# Altium footprint library ESP32_S3_PcbLib.PcbLib: 16 footprints
Each footprint in its own frame and in the unit in brackets; x right, y up, seen from the top. Pads: shape width x height; smd on the part's side, far side on the other; paste and mask are expansions set on the pad; w line width, h text height; cw(c..) or ccw(c..) is an arc to the next point about the centre after c.
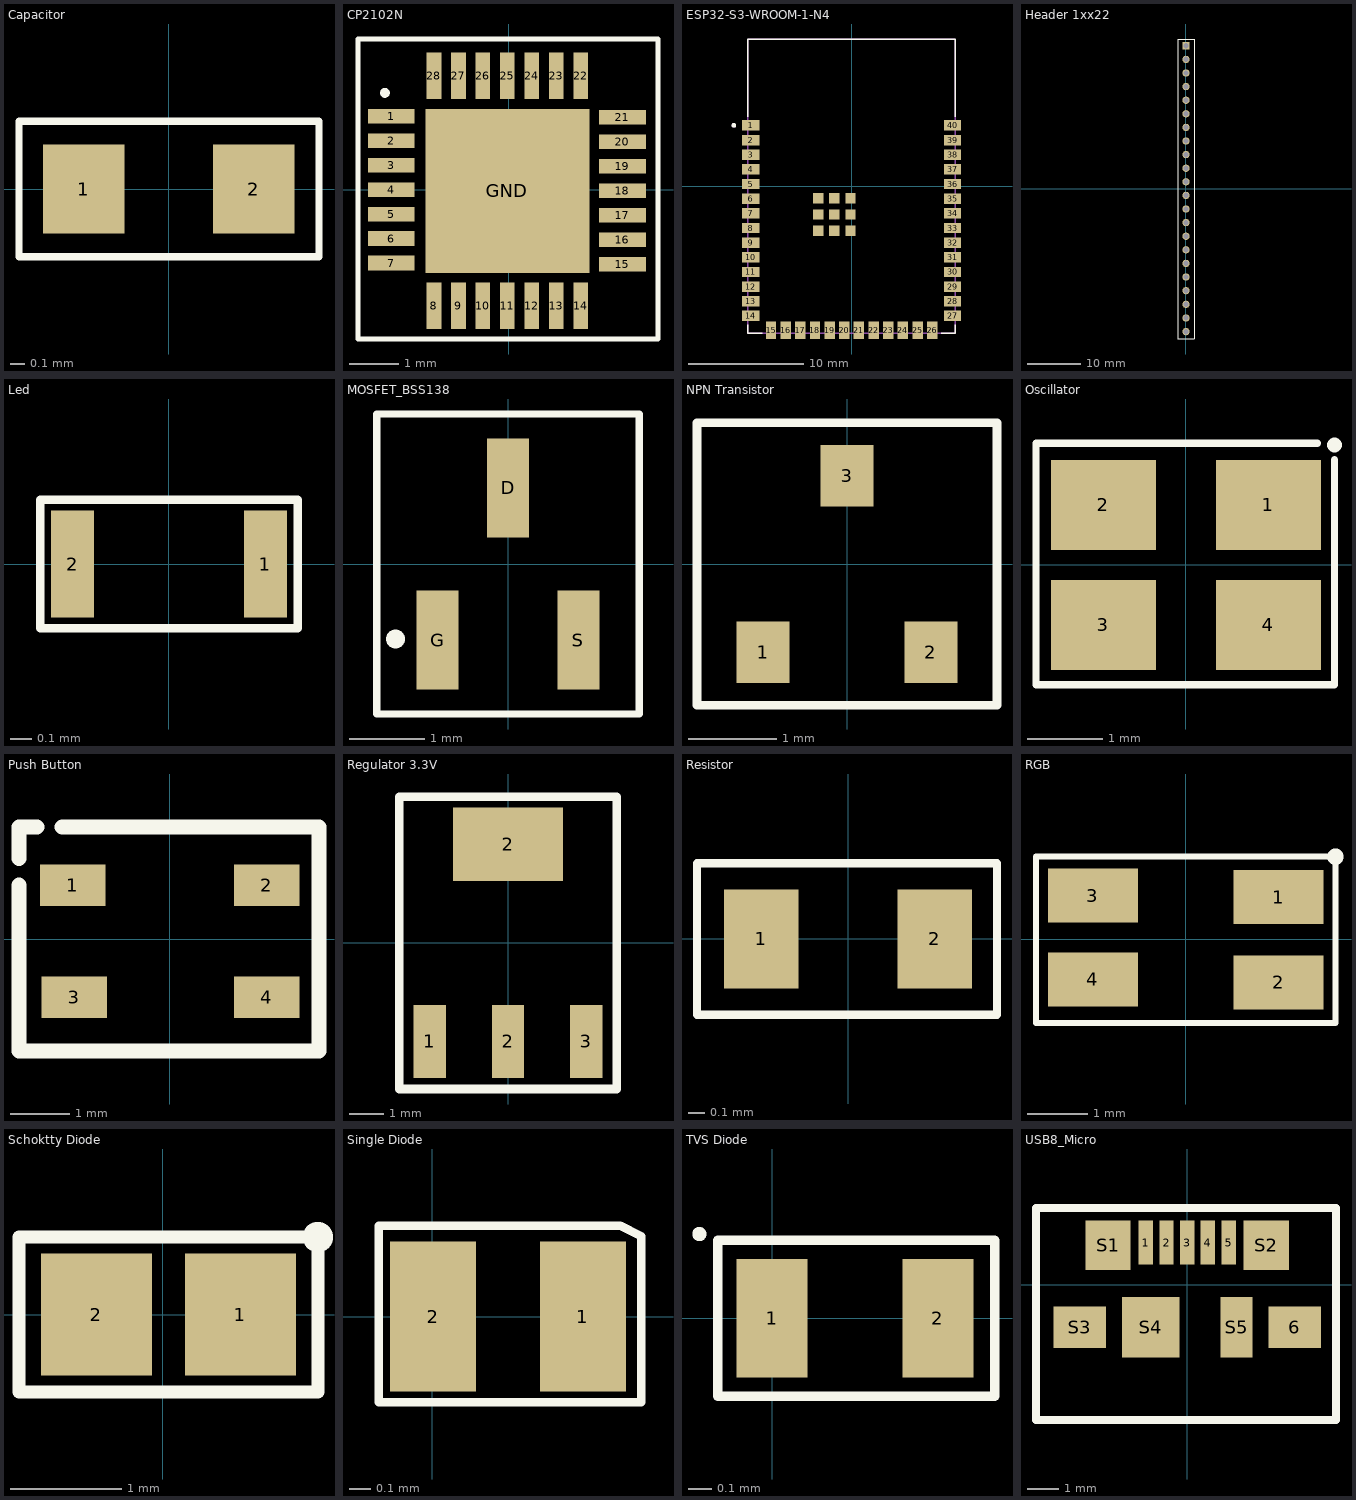
[diagram p0: the footprints below, top view; thin cyan lines are the x and y axes]

## Capacitor [mm]
pads (2):
  rect 0.55x0.6 smd: 1(-0.575,0) 2(0.575,0)
Top Overlay:
  lines w0.05: -1.013,-0.457 -1.013,0.457 1.016,0.457 1.016,-0.457 -1.013,-0.457
3D body "cap_0402.step": height 0.56, standoff 0, extent -0.521,-0.279 0.521,0.279

## CP2102N [mm] "IC USB TO UART BRIDGE QFN20"
pads (29):
  rect 0.95x0.3 smd mask+0.05: 1(-2.4,1.5) 2(-2.4,1) 3(-2.4,0.5) 4(-2.4,0) 5(-2.4,-0.5) 6(-2.4,-1) 7(-2.4,-1.5) 15(2.325,-1.525) 16(2.325,-1.025) 17(2.325,-0.525) 18(2.325,-0.025) 19(2.325,0.475) 20(2.325,0.975) 21(2.325,1.475)
  rect 0.3x0.95 smd mask+0.05: 8(-1.525,-2.375) 9(-1.025,-2.375) 10(-0.525,-2.375) 11(-0.025,-2.375) 12(0.475,-2.375) 13(0.975,-2.375) 14(1.475,-2.375) 22(1.475,2.325) 23(0.975,2.325) 24(0.475,2.325) 25(-0.025,2.325) 26(-0.525,2.325) 27(-1.025,2.325) 28(-1.525,2.325)
  rect 3.35x3.35 smd mask+0.05: GND(-0.025,-0.025)
Top Overlay:
  circle w0.1: c-2.525,1.975 r0.05
  lines w0.1: -3.075,-3.05 3.05,-3.05 3.05,3.075 -3.075,3.075 -3.075,-3.05
3D body "QFN28_5X5_SIL.step": height 0.81, standoff 0, extent -2.502,-2.502 2.502,2.502

## ESP32-S3-WROOM-1-N4 [mm] "RF TXRX MOD BT WIFI PCB TH SMD"
pads (49):
  rect 1.5x0.9 smd: 1(-8.75,5.26) 2(-8.75,3.99) 3(-8.75,2.72) 4(-8.75,1.45) 5(-8.75,0.18) 6(-8.75,-1.09) 7(-8.75,-2.36) 8(-8.75,-3.63) 9(-8.75,-4.9) 10(-8.75,-6.17) 11(-8.75,-7.44) 12(-8.75,-8.71) 13(-8.75,-9.98) 14(-8.75,-11.25) 27(8.75,-11.25) 28(8.75,-9.98) 29(8.75,-8.71) 30(8.75,-7.44) 31(8.75,-6.17) 32(8.75,-4.9) 33(8.75,-3.63) 34(8.75,-2.36) 35(8.75,-1.09) 36(8.75,0.18) 37(8.75,1.45) 38(8.75,2.72) 39(8.75,3.99) 40(8.75,5.26)
  rect 0.9x1.5 smd: 15(-6.985,-12.5) 16(-5.715,-12.5) 17(-4.445,-12.5) 18(-3.175,-12.5) 19(-1.905,-12.5) 20(-0.635,-12.5) 21(0.635,-12.5) 22(1.905,-12.5) 23(3.175,-12.5) 24(4.445,-12.5) 25(5.715,-12.5) 26(6.985,-12.5)
  rect 0.9x0.9 smd: GND(-2.9,-3.86) GND(-2.9,-2.46) GND(-2.9,-1.06) GND(-1.5,-3.86) GND(-1.5,-2.46) GND(-1.5,-1.06) GND(-0.1,-3.86) GND(-0.1,-2.46) GND(-0.1,-1.06)
Top Overlay:
  circle w0.2: c-10.2,5.26 r0.1
  lines w0.127: -9,-12.02 -9,-12.75 -7.755,-12.75 ; -9,6.03 -9,12.75 9,12.75 9,6.03 ; 7.755,-12.75 9,-12.75 9,-12.02
Mechanical 13:
  circle w0.2: c-10.2,5.26 r0.1
  lines w0.127: -9,-12.75 9,-12.75 9,6.75 9,12.75 -9,12.75 -9,6.75 -9,-12.75
3D body "ESP32-S3-WROOM-1.STEP": height 3.1, standoff 0, extent -9.017,-12.75 8.983,12.75

## Header 1xx22 [mm]
pads (22):
  rect 1.37x1.37 hole 1.02: 01(0,26.69)
  round 1.37 hole 1.02: 02(0,24.15) 03(0,21.61) 04(0,19.07) 05(0,16.53) 06(0,13.99) 07(0,11.45) 08(0,8.91) 09(0,6.37) 10(0,3.83) 11(0,1.29) 12(0,-1.25) 13(0,-3.79) 14(0,-6.33) 15(0,-8.87) 16(0,-11.41) 17(0,-13.95) 18(0,-16.49) 19(0,-19.04) 20(0,-21.59) 21(0,-24.14) 22(0,-26.69)
Top Overlay:
  lines w0.2: -1.525,-28.067 -1.525,27.96 1.525,27.96 1.525,-28.067 -1.525,-28.067
3D body "Header, Male, 2.54mm, 1x20.STEP": height 6, standoff -5.54, extent -1.27,-22.84 1.27,27.96
3D body "Header, Male, 2.54mm, 1x2.STEP": height 6, standoff -5.54, extent -1.27,-27.838 1.27,-22.758

## Led [mm]
pads (2):
  rect 0.2x0.5 smd mask+0.02: 1(0.45,0) 2(-0.45,0)
Top Overlay:
  lines w0.04: -0.6,-0.3 -0.6,0.3 0.6,0.3 0.6,-0.1 0.6,-0.3 0.5,-0.3 -0.6,-0.3
3D body "QBLP595.step": height 0.5, standoff 0, extent -0.521,-0.25 0.479,0.25

## MOSFET_BSS138 [mil]
pads (3):
  rect 22x52 smd: D(0,40) G(-37,-40) S(37,-40)
Top Overlay:
  circle w10: c-59.06,-39.37 r0.04
  lines w3.94: -68.9,-78.74 68.9,-78.74 68.9,78.74 -68.9,78.74 -68.9,-78.74
3D body "SOT-323_DIO.step": height 39.49, standoff 0, extent -43.31,-43.31 43.31,43.31

## NPN Transistor [mm] "TRANS PREBIAS NPN 50V TO236AB"
pads (3):
  rect 0.6x0.7 smd: 1(-0.95,-1) 2(0.95,-1) 3(0,1)
Top Overlay:
  lines w0.1: -1.7,-1.6 1.7,-1.6 1.7,1.6 -1.7,1.6 -1.7,-1.6
3D body "PDTD114ETR.step": height 1.01, standoff -0.09, extent -1.45,-1.15 1.45,1.15

## Oscillator [mm]
pads (4):
  rect 1.4x1.2 smd: 1(1.1,0.8) 2(-1.1,0.8) 3(-1.1,-0.8) 4(1.1,-0.8)
Top Overlay:
  lines w0.1: 1.753,1.626 -2,1.626 -2,1.1 -2,-1.6 1.981,-1.6 1.981,1.4
  lines w0.2: 1.981,1.6 ccw(c1.991,1.6) 1.981,1.6
3D body "XTAL_403C35D12M00000_CTS.step": height 0.76, standoff 0, extent -1.651,-1.321 1.651,1.321

## Push Button [mm] "SWITCH TACTILE SPST-NO 0.05A 12V"
pads (4):
  rect 1.1x0.7 smd: 1(-1.625,0.9) 2(1.625,0.9) 3(-1.6,-0.975) 4(1.625,-0.975)
Top Overlay:
  lines w0.254: -2.525,0.9 -2.525,-1.875 2.5,-1.875 2.5,1.875 -1.8,1.875 ; -2.525,1.35 -2.525,1.875 -2.225,1.875
3D body "Tactile_Push Button.stp": height 2.51, standoff 0.01, extent -2.299,-1.625 2.299,1.575

## Regulator 3.3V [mm]
pads (4):
  rect 0.95x2.15 smd: 1(-2.3,-2.9) 2(0,-2.9) 3(2.3,-2.9)
  rect 3.25x2.15 smd: 2(0,2.9)
Top Overlay:
  lines w0.254: -3.2,-4.3 3.2,-4.3 3.2,4.3 -3.2,4.3 -3.2,-4.3
3D body "MC33269ST-3.3T3G.STEP": height 1.75, standoff 0, extent -3.25,-3.4 3.25,3.6

## Resistor [mm]
pads (2):
  rect 0.45x0.6 smd: 1(-0.525,0) 2(0.525,0)
Top Overlay:
  lines w0.05: -0.913,-0.457 0.9,-0.457 0.9,0.457 -0.913,0.457 -0.913,-0.457
3D body "RES_0402.step": height 0.36, standoff 0, extent -0.546,-0.279 0.546,0.279

## RGB [mm]
pads (4):
  rect 1.5x0.9 smd: 1(1.55,0.7) 2(1.55,-0.725) 3(-1.55,0.725) 4(-1.55,-0.675)
Top Overlay:
  circle w0.254: c2.5,1.375 r0.01
  lines w0.1: -2.5,-1.4 2.5,-1.4 2.5,1.375 -2.5,1.375 -2.5,-1.4
3D body "RGB.stp": height 1.92, standoff 0.02, extent -1.75,-1.4 1.75,1.4

## Schoktty Diode [mm]
pads (2):
  rect 1x1.1 smd mask+0.02: 1(0.7,0) 2(-0.6,0)
Top Overlay:
  circle w0.254: c1.4,0.7 r0.01
  lines w0.12: -1.3,-0.7 1.4,-0.7 1.4,0.7 -1.3,0.7 -1.3,-0.7
3D body "Schottky.step": height 0.31, standoff 0, extent -0.8,-0.406 0.8,0.406

## Single Diode [mm]
pads (2):
  rect 0.4x0.7 smd mask+0.02: 1(0.703,0) 2(0.003,0)
Top Overlay:
  lines w0.04: -0.25,-0.4 -0.25,0.425 0.875,0.425 0.975,0.375 0.975,0.175 0.975,-0.4 0.875,-0.4 -0.25,-0.4
3D body "CR_X2-DFN1006-2_DIO.step": height 0.41, standoff 0, extent -0.183,-0.343 0.883,0.343

## TVS Diode [mm]
pads (2):
  rect 0.3x0.5 smd mask+0.04: 1(0,0) 2(0.7,0)
Top Overlay:
  circle w0.04: c-0.307,0.356 r0.01
  lines w0.04: -0.229,-0.33 0.94,-0.33 0.94,0.33 -0.229,0.33 -0.229,-0.33
3D body "TVS.step": height 0.56, standoff 0, extent -0.165,-0.355 0.877,0.305

## USB8_Micro [mm]
pads (11):
  rect 0.45x1.38 smd: 1(-1.3,1.33) 2(-0.65,1.33) 3(0,1.33) 4(0.65,1.33) 5(1.3,1.33)
  rect 1.65x1.3 smd: 6(3.375,-1.33) S3(-3.375,-1.33)
  rect 1.425x1.55 smd: S1(-2.488,1.245) S2(2.488,1.245)
  rect 1.8x1.9 smd: S4(-1.15,-1.33)
  rect 1x1.9 smd: S5(1.55,-1.33)
Top Overlay:
  lines w0.254: -4.75,-4.242 4.674,-4.242 4.674,2.413 -4.75,2.413 -4.75,-4.242
3D body "USB_bMicro.STEP": height 2.71, standoff -0.23, extent -4.18,-3.83 4.18,1.6